# Altium footprint library RDER72H105MUB1H03B.PcbLib: 1 footprints
Each footprint in its own frame and in the unit in brackets; x right, y up, seen from the top. Pads: shape width x height; smd on the part's side, far side on the other; paste and mask are expansions set on the pad; w line width, h text height; cw(c..) or ccw(c..) is an arc to the next point about the centre after c.
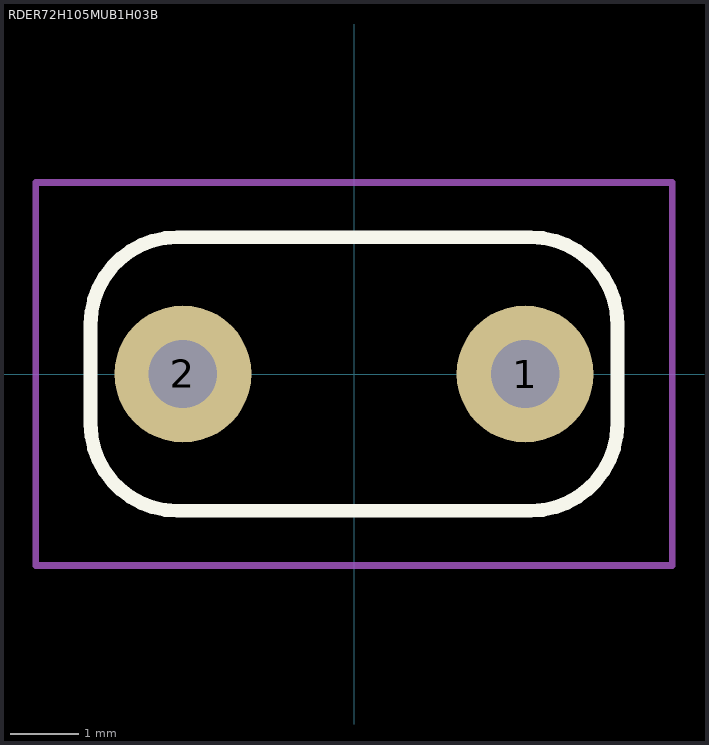
[diagram p0: the footprint, top view; thin cyan lines are the x and y axes]

## RDER72H105MUB1H03B [mm]
pads (2):
  round 2 hole 1: 1(2.5,0) 2(-2.5,0)
Top Overlay:
  lines w0.2: -3.85,-0.73 ccw(c-2.58,-0.73) -2.58,-2 2.58,-2 ccw(c2.58,-0.73) 3.85,-0.73 3.85,0.73 ccw(c2.58,0.73) 2.58,2 1.85,2 -2.58,2 ccw(c-2.58,0.73) -3.85,0.73 -3.85,-0.73
Top Courtyard:
  lines w0.1: -4.65,-2 -4.65,-2.8 ; -3.85,-2.8 -4.65,-2.8 ; 3.85,2.8 4.65,2.8 ; 4.65,2 4.65,2.8 ; -4.65,-2.8 -4.65,2.8 4.65,2.8 ; -4.65,-2.8 4.65,-2.8 4.65,2.8
3D body "RDER72H105MUB1H03B.STEP": height 15, standoff -22.5, extent -3.85,-2 3.85,2